# EAGLE library part B0100002 (library con-amphenol)
AMPHENOL CONNECTOR
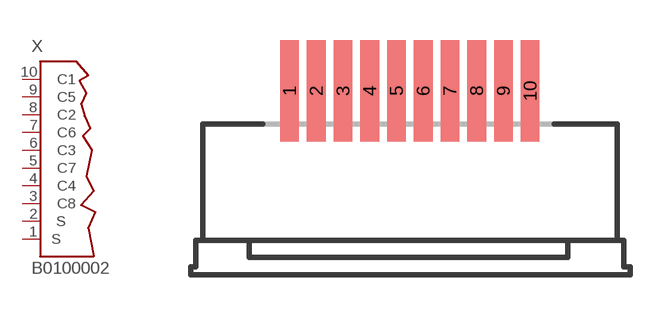
[diagram p9: symbol with the pads of B0100002; footprint B0100002]

Designator prefix X

## B0100002 (OC_FARNELL: unknown; OC_NEWARK: unknown)  [B0100002]
1  S1  pas
2  S2  pas
3  C8  pas
4  C4  pas
5  C7  pas
6  C3  pas
7  C6  pas
8  C2  pas
9  C5  pas
10  C1  pas

## Footprint B0100002 (pad centres in mm)
AMPHENOL CONNECTOR
smd 0.7 x 3.8: 1 -4.5,2.91; 2 -3.5,2.91; 3 -2.5,2.91; 4 -1.5,2.91; 5 -0.5,2.91; 6 0.5,2.91; 7 1.5,2.91; 8 2.5,2.91; 9 3.5,2.91; 10 4.5,2.91